# Altium schematic symbol library SCH - DRIVER - LED - TI LM3431AMH.SchLib: 1 symbol
Pins are listed as number, name and electrical type; pins without a type are passive.

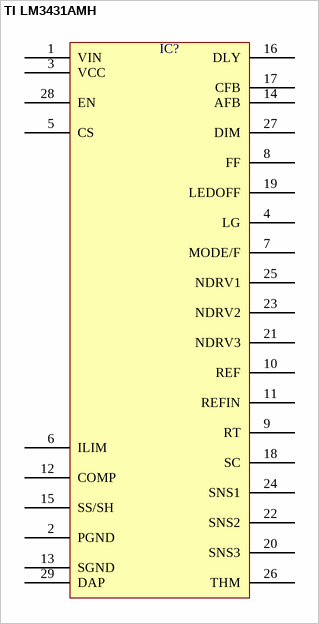
[diagram p0: symbol TI LM3431AMH]

## TI LM3431AMH
designator IC?  (value not drawn)
pins: 1 VIN, 2 PGND, 3 VCC, 4 LG, 5 CS, 6 ILIM, 7 MODE/F, 8 FF, 9 RT, 10 REF, 11 REFIN, 12 COMP, 13 SGND, 14 AFB, 15 SS/SH, 16 DLY, 17 CFB, 18 SC, 19 LEDOFF, 20 SNS3, 21 NDRV3, 22 SNS2, 23 NDRV2, 24 SNS1, 25 NDRV1, 26 THM, 27 DIM, 28 EN, 29 DAP